# Altium footprint library lib_altera.PcbLib: 1 footprints
Each footprint in its own frame and in the unit in brackets; x right, y up, seen from the top. Pads: shape width x height; smd on the part's side, far side on the other; paste and mask are expansions set on the pad; w line width, h text height; cw(c..) or ccw(c..) is an arc to the next point about the centre after c.
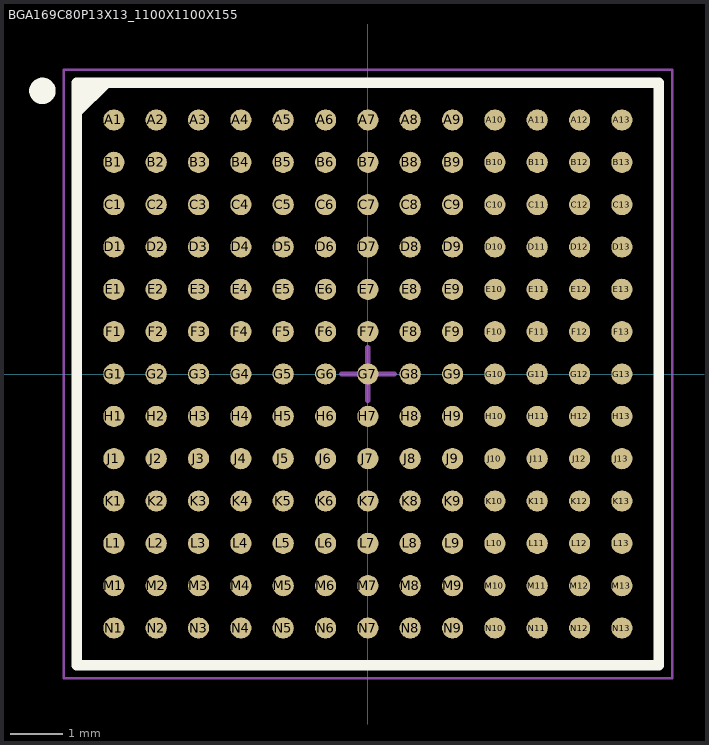
[diagram p0: the footprint, top view; thin cyan lines are the x and y axes]

## BGA169C80P13X13_1100X1100X155 [mm] "BGA, 169-Leads, Body 11.00x11.00mmx1.55mm, Pitch 0.80mm"
height 1.55
pads (169):
  round 0.4 smd: A1(-4.8,4.8) A2(-4,4.8) A3(-3.2,4.8) A4(-2.4,4.8) A5(-1.6,4.8) A6(-0.8,4.8) A7(0,4.8) A8(0.8,4.8) A9(1.6,4.8) A10(2.4,4.8) A11(3.2,4.8) A12(4,4.8) A13(4.8,4.8) B1(-4.8,4) B2(-4,4) B3(-3.2,4) B4(-2.4,4) B5(-1.6,4) B6(-0.8,4) B7(0,4) B8(0.8,4) B9(1.6,4) B10(2.4,4) B11(3.2,4) B12(4,4) B13(4.8,4) C1(-4.8,3.2) C2(-4,3.2) C3(-3.2,3.2) C4(-2.4,3.2) C5(-1.6,3.2) C6(-0.8,3.2) C7(0,3.2) C8(0.8,3.2) C9(1.6,3.2) C10(2.4,3.2) C11(3.2,3.2) C12(4,3.2) C13(4.8,3.2) D1(-4.8,2.4) D2(-4,2.4) D3(-3.2,2.4) D4(-2.4,2.4) D5(-1.6,2.4) D6(-0.8,2.4) D7(0,2.4) D8(0.8,2.4) D9(1.6,2.4) D10(2.4,2.4) D11(3.2,2.4) D12(4,2.4) D13(4.8,2.4) E1(-4.8,1.6) E2(-4,1.6) E3(-3.2,1.6) E4(-2.4,1.6) E5(-1.6,1.6) E6(-0.8,1.6) E7(0,1.6) E8(0.8,1.6) E9(1.6,1.6) E10(2.4,1.6) E11(3.2,1.6) E12(4,1.6) E13(4.8,1.6) F1(-4.8,0.8) F2(-4,0.8) F3(-3.2,0.8) F4(-2.4,0.8) F5(-1.6,0.8) F6(-0.8,0.8) F7(0,0.8) F8(0.8,0.8) F9(1.6,0.8) F10(2.4,0.8) F11(3.2,0.8) F12(4,0.8) F13(4.8,0.8) G1(-4.8,0) G2(-4,0) G3(-3.2,0) G4(-2.4,0) G5(-1.6,0) G6(-0.8,0) G7(0,0) G8(0.8,0) G9(1.6,0) G10(2.4,0) G11(3.2,0) G12(4,0) G13(4.8,0) H1(-4.8,-0.8) H2(-4,-0.8) H3(-3.2,-0.8) H4(-2.4,-0.8) H5(-1.6,-0.8) H6(-0.8,-0.8) H7(0,-0.8) H8(0.8,-0.8) H9(1.6,-0.8) H10(2.4,-0.8) H11(3.2,-0.8) H12(4,-0.8) H13(4.8,-0.8) J1(-4.8,-1.6) J2(-4,-1.6) J3(-3.2,-1.6) J4(-2.4,-1.6) J5(-1.6,-1.6) J6(-0.8,-1.6) J7(0,-1.6) J8(0.8,-1.6) J9(1.6,-1.6) J10(2.4,-1.6) J11(3.2,-1.6) J12(4,-1.6) J13(4.8,-1.6) K1(-4.8,-2.4) K2(-4,-2.4) K3(-3.2,-2.4) K4(-2.4,-2.4) K5(-1.6,-2.4) K6(-0.8,-2.4) K7(0,-2.4) K8(0.8,-2.4) K9(1.6,-2.4) K10(2.4,-2.4) K11(3.2,-2.4) K12(4,-2.4) K13(4.8,-2.4) L1(-4.8,-3.2) L2(-4,-3.2) L3(-3.2,-3.2) L4(-2.4,-3.2) L5(-1.6,-3.2) L6(-0.8,-3.2) L7(0,-3.2) L8(0.8,-3.2) L9(1.6,-3.2) L10(2.4,-3.2) L11(3.2,-3.2) L12(4,-3.2) L13(4.8,-3.2) M1(-4.8,-4) M2(-4,-4) M3(-3.2,-4) M4(-2.4,-4) M5(-1.6,-4) M6(-0.8,-4) M7(0,-4) M8(0.8,-4) M9(1.6,-4) M10(2.4,-4) M11(3.2,-4) M12(4,-4) M13(4.8,-4) N1(-4.8,-4.8) N2(-4,-4.8) N3(-3.2,-4.8) N4(-2.4,-4.8) N5(-1.6,-4.8) N6(-0.8,-4.8) N7(0,-4.8) N8(0.8,-4.8) N9(1.6,-4.8) N10(2.4,-4.8) N11(3.2,-4.8) N12(4,-4.8) N13(4.8,-4.8)
Top Overlay:
  circle w0.25: c-6.15,5.35 r0.125
  region: -4.949,5.5 -5.5,4.949 -5.5,5.5
  lines w0.2: -5.5,4.949 -4.949,5.5 ; -5.5,-5.5 5.5,-5.5 5.5,5.5 -5.5,5.5 -5.5,-5.5
Mechanical 13:
  lines w0.1: -5.5,-5.5 5.5,-5.5 5.5,5.5 -5.5,5.5 -5.5,-5.5
Mechanical 15:
  lines w0.05: -5.75,-5.75 5.75,-5.75 5.75,5.75 -5.75,5.75 -5.75,-5.75
  lines w0.1: -0.5,0 0.5,0 ; 0,-0.5 0,0.5
3D body "BGA169C80P13X13_1100X1100X155.step": height 1.55, standoff 0, extent -5.5,-5.5 5.5,5.5